# Altium schematic symbol library BME688.SchLib: 1 symbol
Pins are listed as number, name and electrical type; pins without a type are passive.

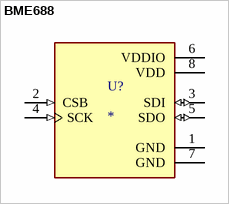
[diagram p0: symbol BME688]

## BME688
designator U?
Gas sensor measuring relative humidity, barometric pressure, ambient temperature and gas (VOC); MP: BME688; Package: None; Price: None; Availability: Unavailable; Value: *
footprint IC_BME688
pins: 1 GND (power), 2 CSB (in), 3 SDI (io), 4 SCK (in), 5 SDO (io), 6 VDDIO (power), 7 GND (power), 8 VDD (power)